# Altium schematic symbol library ABRACON_OSC.SchLib: 1 symbol
Pins are listed as number, name and electrical type; pins without a type are passive.

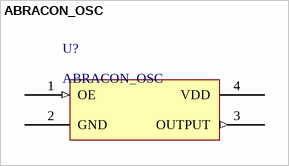
[diagram p0: symbol ABRACON_OSC]

## ABRACON_OSC
designator U?
pins: 1 OE (in), 2 GND (power), 3 OUTPUT (out), 4 VDD (power)